# EAGLE library part AAT4292 (library skyworks)
Skyworks AAT4292 Seven Channel High Side I/O Expander
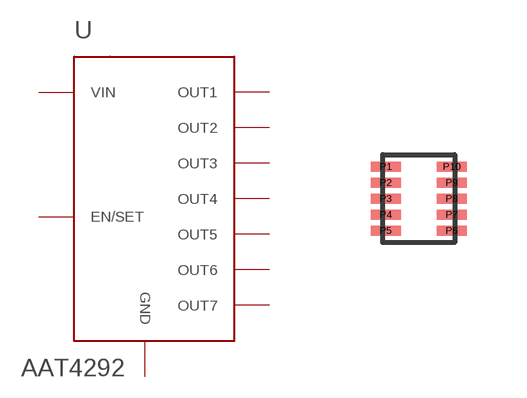
[diagram p0: symbol with the pads of SC70JW-10; footprint SC70JW-10]

Designator prefix U

## AAT4292 (DIGIKEY: 863-1516-1-ND; P1O: o)  [SC70JW-10]
P1  OUT4
P2  OUT5
P3  OUT6
P4  OUT7
P5  GND
P6  EN/SET
P7  OUT1
P8  OUT2
P9  OUT3
P10  VIN

## Footprint SC70JW-10 (pad centres in mm)
SC70JW-10 Skyworks Package
smd 0.75 x 0.25: P1 -0.825,0.8; P2 -0.825,0.4; P3 -0.825,0; P4 -0.825,-0.4; P5 -0.825,-0.8; P6 0.825,-0.8; P7 0.825,-0.4; P8 0.825,0; P9 0.825,0.4; P10 0.825,0.8